# EAGLE library part USL00_30L (library custom-connectors)
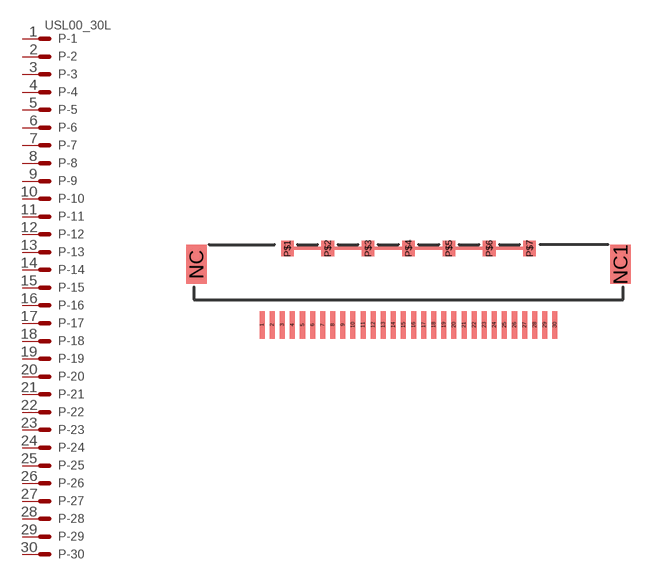
[diagram p19: symbol with the pads of USL00_30L; footprint USL00_30L]

Designator prefix P; gates -1=MV -16=M -3=M -4=M -17=M -18=M -19=M -20=M -21=M -22=M -23=M -5=M -6=M -15=M -7=M -8=M -9=M -10=M -2=M -11=M -12=M -13=M -14=M -24=M -25=M -26=M -27=M -28=M -29=M -30=M

## USL00_30L  [USL00_30L]
1  -1:S  pas
2  -2:S  pas
3  -3:S  pas
4  -4:S  pas
5  -5:S  pas
6  -6:S  pas
7  -7:S  pas
8  -8:S  pas
9  -9:S  pas
10  -10:S  pas
11  -11:S  pas
12  -12:S  pas
13  -13:S  pas
14  -14:S  pas
15  -15:S  pas
16  -16:S  pas
17  -17:S  pas
18  -18:S  pas
19  -19:S  pas
20  -20:S  pas
21  -21:S  pas
22  -22:S  pas
23  -23:S  pas
24  -24:S  pas
25  -25:S  pas
26  -26:S  pas
27  -27:S  pas
28  -28:S  pas
29  -29:S  pas
30  -30:S  pas

## Footprint USL00_30L (pad centres in mm)
smd 0.2 x 1.1: 1 -5.8,0; 2 -5.4,0; 3 -5,0; 4 -4.6,0; 5 -4.2,0; 6 -3.8,0; 7 -3.4,0; 8 -3,0; 9 -2.6,0; 10 -2.2,0; 11 -1.8,0; 12 -1.4,0; 13 -1,0; 14 -0.6,0; 15 -0.2,0; 16 0.2,0; 17 0.6,0; 18 1,0; 19 1.4,0; 20 1.8,0; 21 2.2,0; 22 2.6,0; 23 3,0; 24 3.4,0; 25 3.8,0; 26 4.2,0; 27 4.6,0; 28 5,0; 29 5.4,0; 30 5.8,0
smd 0.8 x 1.55: NC -8.4,2.4; NC1 8.4,2.4
smd 0.5 x 0.6: P$1 -4.8,3.03; P$2 -3.2,3.03; P$3 -1.6,3.03; P$4 0,3.03; P$5 1.6,3.03; P$6 3.2,3.03; P$7 4.8,3.03